# Altium schematic symbol library Resistor.SchLib: 1 symbol
Pins are listed as number, name and electrical type; pins without a type are passive.

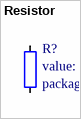
[diagram p0: symbol Resistor]

## Resistor
designator R?
Manufacturer: *; Manufacturer Part number: *; Supplier: *; Supplier Part number: *; Operating Temparature,min: *; Operating Temparature,max: *; Quantity,min: *; Quantity,max: *; price,min: *; price,max: *; supplier currency: *; supplier link: *; tolarance: *; component type: resistor; component category: *; ComponentLink1Description: datasheet; ComponentLink1URL: *; ComponentLink2Description: supplier link; ComponentLink2URL: *; package: *; value: *
footprint Resistor_smd_M0603_I0201
footprint Resistor_smd_M1005_I0402
footprint Resistor_Smd_M1608_I0603
footprint Resistor_Smd_M2012_I0805
footprint Resistor_Smd_M3216_I1206
footprint Resistor_Smd_M3225_I1210
footprint Resistor_Smd_M3246_I1812
footprint Resistor_Smd_M5025_I2010
footprint Resistor_Smd_M6332_I2512
pins: 1, 2
1 alternate drawing of the same symbol